# Altium footprint library SOT95P255X145-3N.PcbLib: 1 footprints
Each footprint in its own frame and in the unit in brackets; x right, y up, seen from the top. Pads: shape width x height; smd on the part's side, far side on the other; paste and mask are expansions set on the pad; w line width, h text height; cw(c..) or ccw(c..) is an arc to the next point about the centre after c.
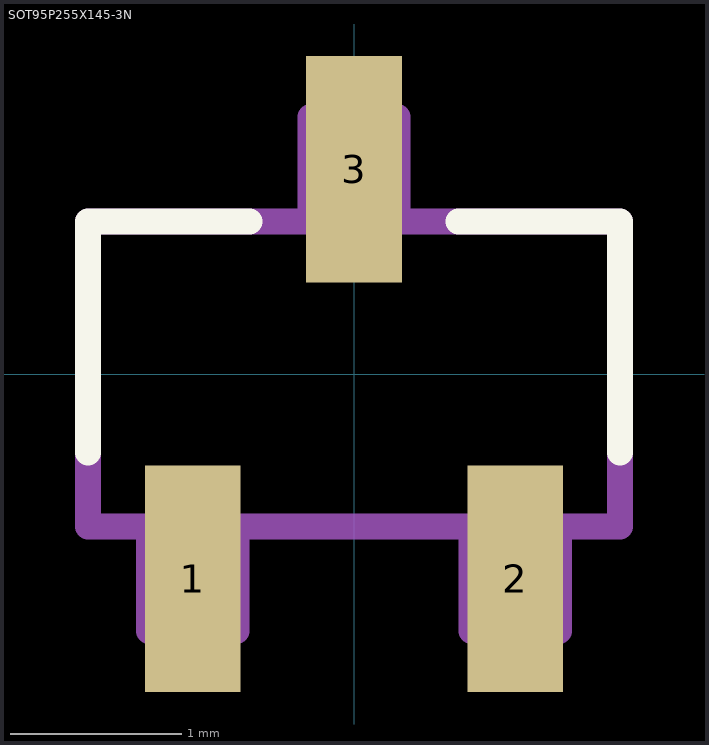
[diagram p0: the footprint, top view; thin cyan lines are the x and y axes]

## SOT95P255X145-3N [mil]
pads (3):
  rect 22x52 smd: 1(-37,-47) 2(37,-47) 3(0,47)
Top Overlay:
  lines w6: -61,-18 -61,35 -24,35 ; 24,35 61,35 61,-18
Mechanical 13:
  lines w6: -61,-35 61,-35 61,35 -61,35 -61,-35 ; -47,-59 -47,-35 -27,-35 -27,-59 -47,-59 ; -10,35 10,35 10,59 -10,59 -10,35 ; 27,-59 27,-35 47,-35 47,-59 27,-59